# Altium integrated library SS54-HF.IntLib: 1 symbol
Pins are listed as number, name and electrical type; pins without a type are passive.

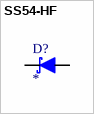
[diagram p0: symbol SS54-HF]

## SS54-HF
designator D?
Diode Schottky 40 V 5A Surface Mount DO-214AC (SMA); MF: Comchip Technology; MP: SS54-HF; SnapEDA_Link: https://www.snapeda.com/parts/SS54-HF/Comchip/view-part/?ref=snap; Package: DO-214AC-214 Comchip Technology; Value: *; Check_prices: https://www.snapeda.com/parts/SS54-HF/Comchip/view-part/?ref=eda
footprint DIOM5025X220N
pins: 1 K (io), 2 A (io)